# Altium footprint library DSN-2.PcbLib: 1 footprints
Each footprint in its own frame and in the unit in brackets; x right, y up, seen from the top. Pads: shape width x height; smd on the part's side, far side on the other; paste and mask are expansions set on the pad; w line width, h text height; cw(c..) or ccw(c..) is an arc to the next point about the centre after c.
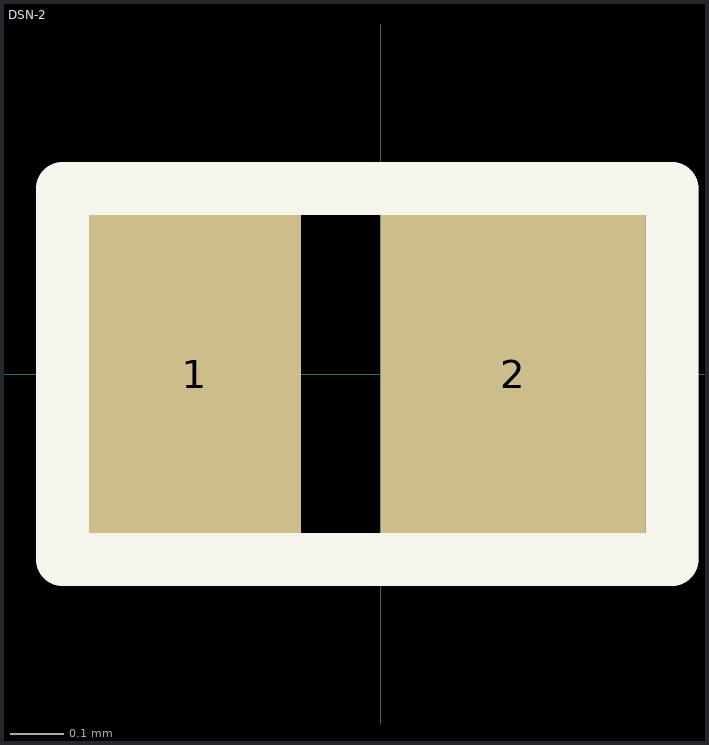
[diagram p0: the footprint, top view; thin cyan lines are the x and y axes]

## DSN-2 [mm]
pads (2):
  rect 0.4x0.6 smd mask+0.001: 1(-0.35,0)
  rect 0.5x0.6 smd mask+0.001: 2(0.25,0)
Top Overlay:
  lines w0.1: -0.6,-0.35 -0.6,0.35 0.55,0.35 0.55,-0.35 -0.6,-0.35
Top Assembly:
  lines w0.1: -0.382,0.341 -0.378,-0.342 ; -0.6,-0.35 -0.6,0.35 0.55,0.35 0.55,-0.35 -0.6,-0.35
  text "'.Designator'" at -0.35,-0.35 h0.7
3D body "User Library-D0402 NSR05F30NXT5G.STEP": height 0.31, standoff 0, extent -0.5,-0.3 0.5,0.3